# Altium footprint library OL_5MM_T.PcbLib: 1 footprints
Each footprint in its own frame and in the unit in brackets; x right, y up, seen from the top. Pads: shape width x height; smd on the part's side, far side on the other; paste and mask are expansions set on the pad; w line width, h text height; cw(c..) or ccw(c..) is an arc to the next point about the centre after c.
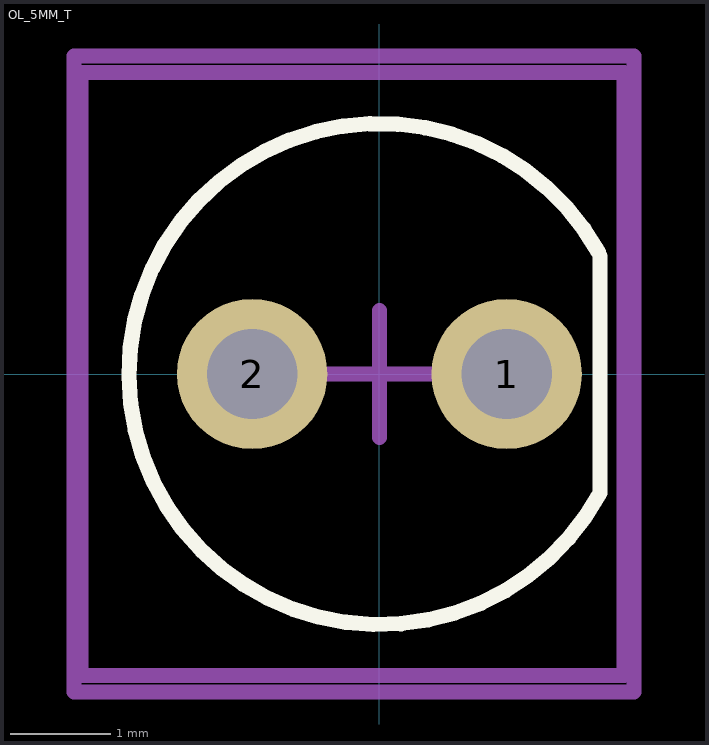
[diagram p0: the footprint, top view; thin cyan lines are the x and y axes]

## OL_5MM_T [mm]
pads (2):
  round 1.5 hole 0.9: 1(1.27,0) 2(-1.27,0)
Top Overlay:
  lines w0.152: 2.184,1.216 ccw(c0,0) 2.2,-1.188 ; 2.2,-1.175 2.2,1.175
Mechanical 1:
  lines w0.15: -0.635,0 0,0 ; 0,-0.635 0,0 ; 0,0.635 0,0 ; 0.635,0 0,0 ; 2.159,3.175 2.54,3.175 2.54,-3.175 -3.048,-3.175 -3.048,3.175 2.413,3.175
Courtyard Bottom:
  lines w0.15: -2.98,-3.01 2.44,-3.01 2.44,3.01 -2.98,3.01 -2.98,-3.01
3D body "User Library-LEDd5C.STEP": height 12.31, standoff -2.49, extent -2.98,-3.01 2.44,3.01